# Altium integrated library Silicon Labs USB MCUs.IntLib: 49 symbols (part 3 of 3)
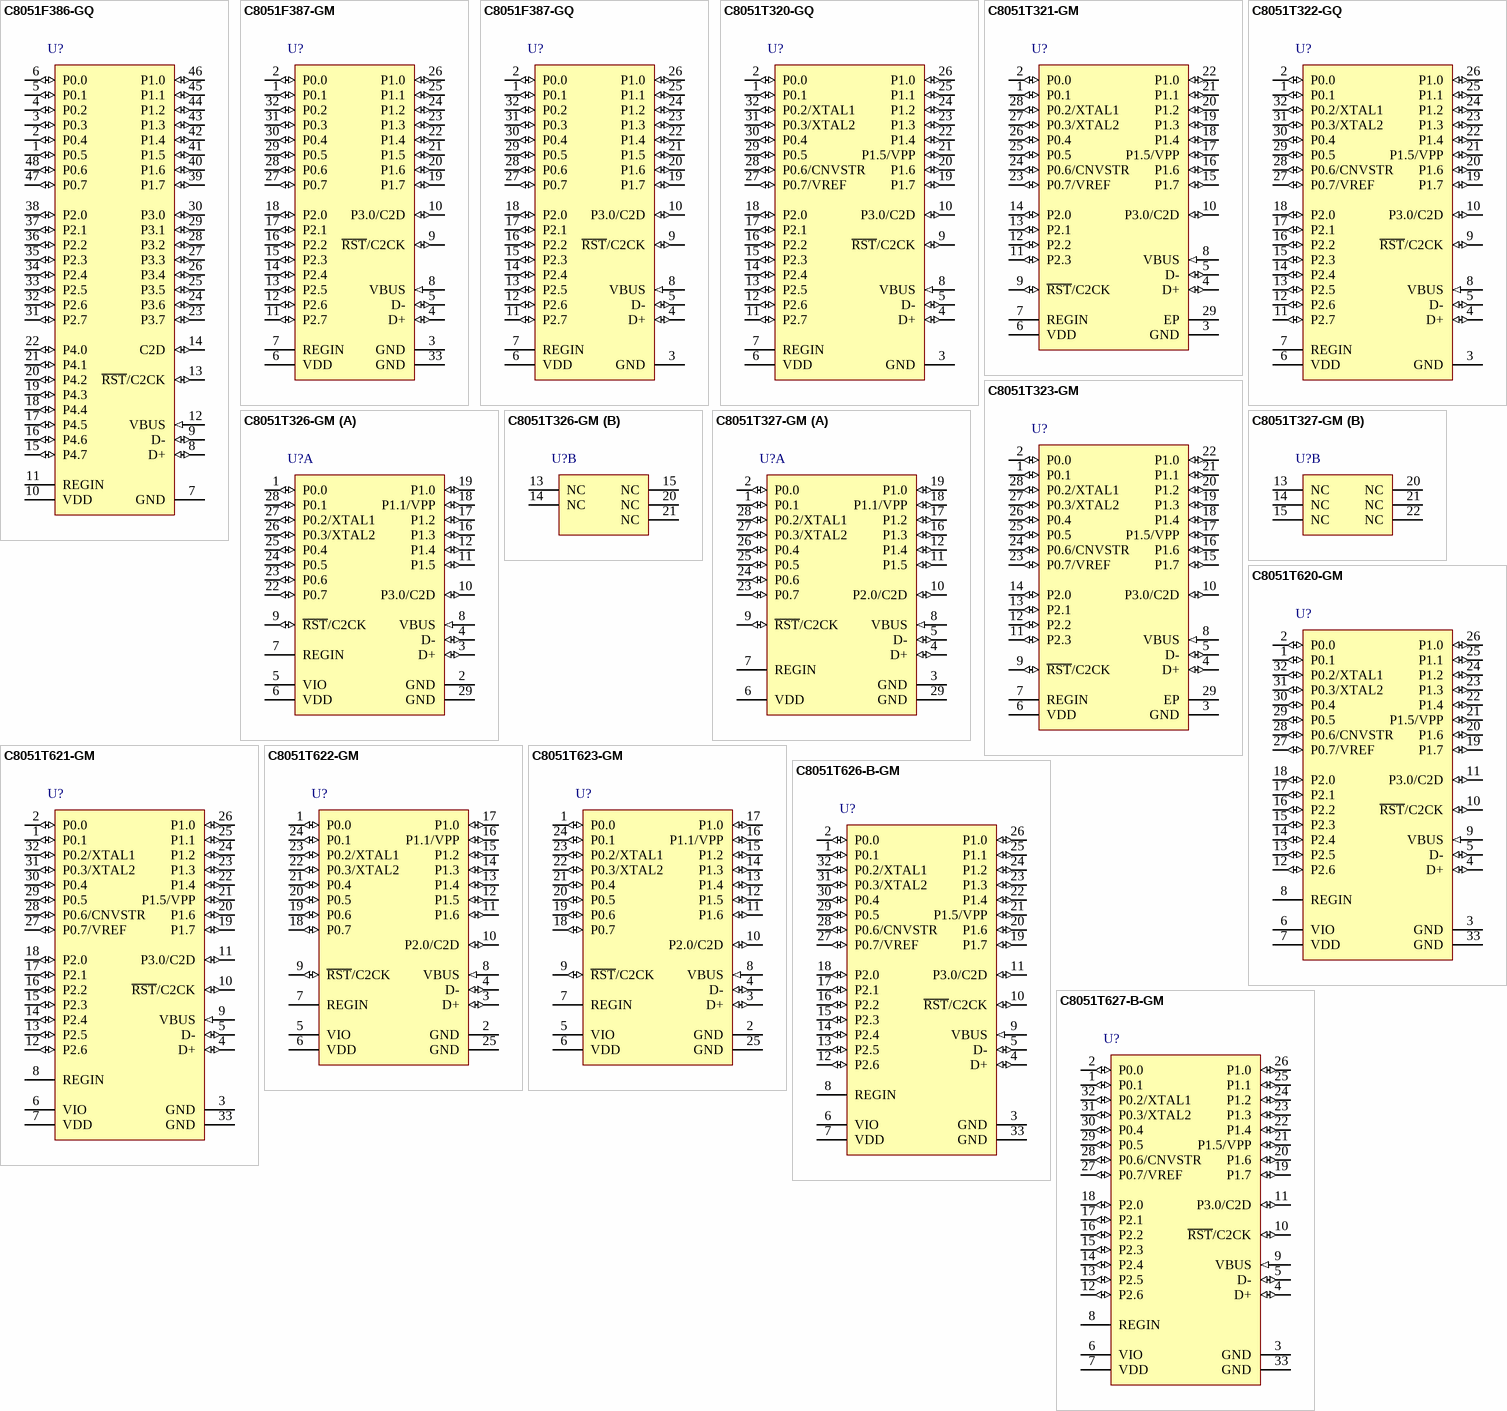
[diagram p4: symbols C8051F386-GQ to C8051T627-B-GM]

## C8051F387-GQ
designator U?
Full Speed USB Flash MCU Family, 48 MHz, 2.25 kB RAM, 32 kB Flash, -40 to 85 degC, 32-pin QFN; Manufacturer: Silicon Labs; PartNumber: C8051F387-GQ; AEC-Q100: FALSE; Comparators: 2; Debug Interface: C2; Dig I/O Pins: 25; Flash: 32 kB; Internal Osc. Accuracy: +/-0.25%; MCU Core: 8051; MHz: 48; PCA Channels: 5; RAM: 2.25 KB; Timers (16-bit): 6; Sub-Family: USB MCUs; DatasheetVersion: Rev. 1.3; PackageReference: LQFP-32; PackageDescription: 32-Pin Low-Profile Quad Flat Pack, Body 7 x 7 mm, Pitch 0.8 mm; Supplier 1: Digi-Key; Supplier Part Number 1: 336-2032-ND; Supplier 2: Mouser; Supplier Part Number 2: 634-C8051F387-GQ; Temp Sensor: FALSE; Mounting Technology: Surface Mount; Code_JEDEC: MS-026; Code_IPC: J-STD-020; ComponentLink1Description: Manufacturer URL; ComponentLink1URL: http://www.silabs.com/; ComponentLink2Description: Datasheet; ComponentLink2URL: http://www.silabs.com/Support Documents/TechnicalDocs/C8051F38x.pdf; ComponentLink3Description: Package Specification; ComponentLink3URL: http://www.silabs.com/Support%20Documents/TechnicalDocs/C8051F38x.pdf
footprint SLAB-LQFP-32_N (QFP, 32-Leads, Body 7x7mm, Pitch 0.8mm, IPC Medium Density)
footprint SLAB-LQFP-32_L (QFP, 32-Leads, Body 7x7mm, Pitch 0.8mm, IPC High Density)
footprint SLAB-LQFP-32_M (QFP, 32-Leads, Body 7x7mm, Pitch 0.8mm, IPC Low Density)
pins: 1 P0.1 (io) "Port 0.1.", 2 P0.0 (io) "Port 0.0. See Section 20 for a complete description of Port 0.", 3 GND (power) "Ground.", 4 D+ (io) "USB D+.", 5 D- (io) "USB D-", 6 VDD (power) "2.7-3.6 V Core Supply Voltage Input. 3.3 V Voltage Regulator Output. See Section 5.", 7 REGIN (power) "5 V Regulator Input. This pin is the input to the on-chip  voltage regulator.", 8 VBUS (in) "VBUS Sense Input. This pin should be connected to the VBUS signal of a USB network. A 5 V signal on this pin indicates a USB network connection.", 9 ~{RST}/C2CK (io), 10 P3.0/C2D (io), 11 P2.7 (io) "Port 2.7.", 12 P2.6 (io) "Port 2.6.", 13 P2.5 (io) "Port 2.5.", 14 P2.4 (io) "Port 2.4.", 15 P2.3 (io) "Port 2.3.", 16 P2.2 (io) "Port 2.2.", 17 P2.1 (io) "Port 2.1.", 18 P2.0 (io) "Port 2.0. See Section 20 for a complete description of Port 2.", 19 P1.7 (io) "Port 1.7.", 20 P1.6 (io) "Port 1.6.", 21 P1.5 (io) "Port 1.5.", 22 P1.4 (io) "Port 1.4.", 23 P1.3 (io) "Port 1.3.", 24 P1.2 (io) "Port 1.2.", 25 P1.1 (io) "Port 1.1.", 26 P1.0 (io) "Port 1.0. See Section 20 for a complete description of Port 1.", 27 P0.7 (io) "Port 0.7.", 28 P0.6 (io) "Port 0.6.", 29 P0.5 (io) "Port 0.5.", 30 P0.4 (io) "Port 0.4.", 31 P0.3 (io) "Port 0.3.", 32 P0.2 (io) "Port 0.2."

## C8051T320-GQ
designator U?
Full Speed USB EPROM MCU Family, 48 MHz, 1.25 kB RAM, 16 kB Flash, -40 to 85 degC, 32-pin QFP; Manufacturer: Silicon Labs; PartNumber: C8051T320-GQ; ADC 1: 10-bit, 16-ch., 500 ksps; AEC-Q100: FALSE; Comparators: 2; Debug Interface: C2; Dig I/O Pins: 25; Flash: 16 kB; MCU Core: 8051; MHz: 48; PCA Channels: 5; RAM: 1.25 KB; Temp Sensor: TRUE; Timers (16-bit): 4; Sub-Family: USB MCUs; DatasheetVersion: Rev. 1.2; PackageReference: LQFP-32; PackageDescription: 32-Pin Low-Profile Quad Flat Pack, Body 7 x 7 mm, Pitch 0.8 mm; Supplier 1: Digi-Key; Supplier Part Number 1: 336-2033-ND; Supplier 2: Mouser; Supplier Part Number 2: 634-C8051T320-GQ; Mounting Technology: Surface Mount; Code_JEDEC: MS-026; Code_IPC: J-STD-020; ComponentLink1Description: Manufacturer URL; ComponentLink1URL: http://www.silabs.com/; ComponentLink2Description: Datasheet; ComponentLink2URL: http://www.silabs.com/Support Documents/TechnicalDocs/C8051T620-21-26-27-T320-3.pdf; ComponentLink3Description: Package Specification; ComponentLink3URL: http://www.silabs.com/Support%20Documents/TechnicalDocs/C8051F38x.pdf
footprint SLAB-LQFP-32_N (QFP, 32-Leads, Body 7x7mm, Pitch 0.8mm, IPC Medium Density)
footprint SLAB-LQFP-32_L (QFP, 32-Leads, Body 7x7mm, Pitch 0.8mm, IPC High Density)
footprint SLAB-LQFP-32_M (QFP, 32-Leads, Body 7x7mm, Pitch 0.8mm, IPC Low Density)
pins: 1 P0.1 (io) "Port 0.1.", 2 P0.0 (io) "Port 0.0.", 3 GND (power) "Ground.", 4 D+ (io) "USB D+.", 5 D- (io) "USB D+.", 6 VDD (power) "Power Supply Voltage.", 7 REGIN (power) "5 V Regulator Input. This pin is the input to the on-chip voltage regulator", 8 VBUS (in) "VBUS Sense Input. This pin should be connected to the VBUS signal of a USB network. A 5 V signal on this pin indicates a USB network connection.", 9 ~{RST}/C2CK (io), 10 P3.0/C2D (io), 11 P2.7 (io) "Port 2.7.", 12 P2.6 (io) "Port 2.6.", 13 P2.5 (io) "Port 2.5.", 14 P2.4 (io) "Port 2.4.", 15 P2.3 (io) "Port 2.3.", 16 P2.2 (io) "Port 2.2.", 17 P2.1 (io) "Port 2.1.", 18 P2.0 (io) "Port 2.0.", 19 P1.7 (io) "Port 1.7.", 20 P1.6 (io) "Port 1.6.", 21 P1.5/VPP (io), 22 P1.4 (io) "Port 1.4.", 23 P1.3 (io) "Port 1.3.", 24 P1.2 (io) "Port 1.2.", 25 P1.1 (io) "Port 1.1.", 26 P1.0 (io) "Port 1.0.", 27 P0.7/VREF (io), 28 P0.6/CNVSTR (io), 29 P0.5 (io) "Port 0.5.", 30 P0.4 (io) "Port 0.4.", 31 P0.3/XTAL2 (io), 32 P0.2/XTAL1 (io)

## C8051T321-GM
designator U?
Full Speed USB EPROM MCU Family, 48 MHz, 1.25 kB RAM, 16 kB Flash, -40 to 85 degC, 28-pin QFN; Manufacturer: Silicon Labs; PartNumber: C8051T321-GM; ADC 1: 10-bit, 16-ch., 500 ksps; AEC-Q100: FALSE; Comparators: 2; Debug Interface: C2; Dig I/O Pins: 21; Flash: 16 kB; MCU Core: 8051; MHz: 48; PCA Channels: 5; RAM: 1.25 KB; Temp Sensor: TRUE; Timers (16-bit): 4; Sub-Family: USB MCUs; DatasheetVersion: Rev. 1.2; PackageReference: QFN-28; PackageDescription: 28-Pin Quad-Flat No-Leads Package, Body 5 x 5 mm, Pitch 0.5 mm; Supplier 1: Digi-Key; Supplier Part Number 1: 336-2034-ND; Supplier 2: Mouser; Supplier Part Number 2: 634-C8051T321-GM; Mounting Technology: Surface Mount; Code_JEDEC: MO-220; Code_IPC: J-STD-020C; ComponentLink1Description: Manufacturer URL; ComponentLink1URL: http://www.silabs.com/; ComponentLink2Description: Datasheet; ComponentLink2URL: http://www.silabs.com/Support Documents/TechnicalDocs/C8051T620-21-26-27-T320-3.pdf; ComponentLink3Description: Package Specification; ComponentLink3URL: http://www.silabs.com/Support%20Documents/TechnicalDocs/C8051T61x.pdf
footprint SLAB-QFN-28-3125x3125TP_N (QFN, 28-Leads, Body 5x5mm, Pitch 0.5mm, Thermal Pad 3.13x3.13mm, IPC Medium Density)
footprint SLAB-QFN-28-3125x3125TP_L (QFN, 28-Leads, Body 5x5mm, Pitch 0.5mm, Thermal Pad 3.13x3.13mm, IPC High Density)
footprint SLAB-QFN-28-3125x3125TP_M (QFN, 28-Leads, Body 5x5mm, Pitch 0.5mm, Thermal Pad 3.13x3.13mm, IPC Low Density)
pins: 1 P0.1 (io) "Port 0.1.", 2 P0.0 (io) "Port 0.0.", 3 GND (power) "Ground.", 4 D+ (io) "USB D+.", 5 D- (io) "USB D-.", 6 VDD (power) "Power Supply Voltage.", 7 REGIN (power) "5 V Regulator Input. This pin is the input to the on-chip voltage regulator", 8 VBUS (in) "VBUS Sense Input. This pin should be connected to the VBUS signal of a USB network. A 5 V signal on this pin indicates a USB network connection.", 9 ~{RST}/C2CK (io), 10 P3.0/C2D (io), 11 P2.3 (io) "Port 2.3.", 12 P2.2 (io) "Port 2.2.", 13 P2.1 (io) "Port 2.1.", 14 P2.0 (io) "Port 2.0.", 15 P1.7 (io) "Port 1.7.", 16 P1.6 (io) "Port 1.6.", 17 P1.5/VPP (io), 18 P1.4 (io) "Port 1.4.", 19 P1.3 (io) "Port 1.3.", 20 P1.2 (io) "Port 1.2.", 21 P1.1 (io) "Port 1.1.", 22 P1.0 (io) "Port 1.0.", 23 P0.7/VREF (io), 24 P0.6/CNVSTR (io), 25 P0.5 (io) "Port 0.5.", 26 P0.4 (io) "Port 0.4.", 27 P0.3/XTAL2 (io), 28 P0.2/XTAL1 (io), 29 EP (power)

## C8051T322-GQ
designator U?
Full Speed USB EPROM MCU Family, 48 MHz, 1.25 kB RAM, 16 kB Flash, -40 to 85 degC, 32-pin QFP; Manufacturer: Silicon Labs; PartNumber: C8051T322-GQ; AEC-Q100: FALSE; Comparators: 2; Debug Interface: C2; Dig I/O Pins: 25; Flash: 16 kB; MCU Core: 8051; MHz: 48; PCA Channels: 5; RAM: 1.25 kB; Temp Sensor: TRUE; Timers (16-bit): 4; Sub-Family: USB MCUs; DatasheetVersion: Rev. 1.2; PackageReference: LQFP-32; PackageDescription: 32-Pin Low-Profile Quad Flat Pack, Body 7 x 7 mm, Pitch 0.8 mm; Supplier 1: Digi-Key; Supplier Part Number 1: 336-2035-ND; Supplier 2: Mouser; Supplier Part Number 2: 634-C8051T322-GQ; Mounting Technology: Surface Mount; Code_JEDEC: MS-026; Code_IPC: J-STD-020; ComponentLink1Description: Manufacturer URL; ComponentLink1URL: http://www.silabs.com/; ComponentLink2Description: Datasheet; ComponentLink2URL: http://www.silabs.com/Support Documents/TechnicalDocs/C8051T620-21-26-27-T320-3.pdf; ComponentLink3Description: Package Specification; ComponentLink3URL: http://www.silabs.com/Support%20Documents/TechnicalDocs/C8051F38x.pdf
footprint SLAB-LQFP-32_N (QFP, 32-Leads, Body 7x7mm, Pitch 0.8mm, IPC Medium Density)
footprint SLAB-LQFP-32_L (QFP, 32-Leads, Body 7x7mm, Pitch 0.8mm, IPC High Density)
footprint SLAB-LQFP-32_M (QFP, 32-Leads, Body 7x7mm, Pitch 0.8mm, IPC Low Density)
pins: 1 P0.1 (io) "Port 0.1.", 2 P0.0 (io) "Port 0.0.", 3 GND (power) "Ground.", 4 D+ (io) "USB D+.", 5 D- (io) "USB D+.", 6 VDD (power) "Power Supply Voltage.", 7 REGIN (power) "5 V Regulator Input. This pin is the input to the on-chip voltage regulator", 8 VBUS (in) "VBUS Sense Input. This pin should be connected to the VBUS signal of a USB network. A 5 V signal on this pin indicates a USB network connection.", 9 ~{RST}/C2CK (io), 10 P3.0/C2D (io), 11 P2.7 (io) "Port 2.7.", 12 P2.6 (io) "Port 2.6.", 13 P2.5 (io) "Port 2.5.", 14 P2.4 (io) "Port 2.4.", 15 P2.3 (io) "Port 2.3.", 16 P2.2 (io) "Port 2.2.", 17 P2.1 (io) "Port 2.1.", 18 P2.0 (io) "Port 2.0.", 19 P1.7 (io) "Port 1.7.", 20 P1.6 (io) "Port 1.6.", 21 P1.5/VPP (io), 22 P1.4 (io) "Port 1.4.", 23 P1.3 (io) "Port 1.3.", 24 P1.2 (io) "Port 1.2.", 25 P1.1 (io) "Port 1.1.", 26 P1.0 (io) "Port 1.0.", 27 P0.7/VREF (io), 28 P0.6/CNVSTR (io), 29 P0.5 (io) "Port 0.5.", 30 P0.4 (io) "Port 0.4.", 31 P0.3/XTAL2 (io), 32 P0.2/XTAL1 (io)

## C8051T323-GM
designator U?
Full Speed USB EPROM MCU Family, 48 MHz, 1.25 kB RAM, 16 kB Flash, -40 to 85 degC, 28-pin QFN; Manufacturer: Silicon Labs; PartNumber: C8051T323-GM; AEC-Q100: FALSE; Comparators: 2; Debug Interface: C2; Dig I/O Pins: 21; Flash: 16 kB; MCU Core: 8051; MHz: 48; PCA Channels: 5; RAM: 1.25 KB; Temp Sensor: TRUE; Timers (16-bit): 4; Sub-Family: USB MCUs; DatasheetVersion: Rev. 1.2; PackageReference: QFN-28; PackageDescription: 28-Pin Quad-Flat No-Leads Package, Body 5 x 5 mm, Pitch 0.5 mm; Supplier 1: Digi-Key; Supplier Part Number 1: 336-2036-ND; Supplier 2: Mouser; Supplier Part Number 2: 634-C8051T323-GM; Mounting Technology: Surface Mount; Code_JEDEC: MO-220; Code_IPC: J-STD-020C; ComponentLink1Description: Manufacturer URL; ComponentLink1URL: http://www.silabs.com/; ComponentLink2Description: Datasheet; ComponentLink2URL: http://www.silabs.com/Support Documents/TechnicalDocs/C8051T620-21-26-27-T320-3.pdf; ComponentLink3Description: Package Specification; ComponentLink3URL: http://www.silabs.com/Support%20Documents/TechnicalDocs/C8051T61x.pdf
footprint SLAB-QFN-28-3125x3125TP_N (QFN, 28-Leads, Body 5x5mm, Pitch 0.5mm, Thermal Pad 3.13x3.13mm, IPC Medium Density)
footprint SLAB-QFN-28-3125x3125TP_L (QFN, 28-Leads, Body 5x5mm, Pitch 0.5mm, Thermal Pad 3.13x3.13mm, IPC High Density)
footprint SLAB-QFN-28-3125x3125TP_M (QFN, 28-Leads, Body 5x5mm, Pitch 0.5mm, Thermal Pad 3.13x3.13mm, IPC Low Density)
pins: 1 P0.1 (io) "Port 0.1.", 2 P0.0 (io) "Port 0.0.", 3 GND (power) "Ground.", 4 D+ (io) "USB D+.", 5 D- (io) "USB D-.", 6 VDD (power) "Power Supply Voltage.", 7 REGIN (power) "5 V Regulator Input. This pin is the input to the on-chip voltage regulator", 8 VBUS (in) "VBUS Sense Input. This pin should be connected to the VBUS signal of a USB network. A 5 V signal on this pin indicates a USB network connection.", 9 ~{RST}/C2CK (io), 10 P3.0/C2D (io), 11 P2.3 (io) "Port 2.3.", 12 P2.2 (io) "Port 2.2.", 13 P2.1 (io) "Port 2.1.", 14 P2.0 (io) "Port 2.0.", 15 P1.7 (io) "Port 1.7.", 16 P1.6 (io) "Port 1.6.", 17 P1.5/VPP (io), 18 P1.4 (io) "Port 1.4.", 19 P1.3 (io) "Port 1.3.", 20 P1.2 (io) "Port 1.2.", 21 P1.1 (io) "Port 1.1.", 22 P1.0 (io) "Port 1.0.", 23 P0.7/VREF (io), 24 P0.6/CNVSTR (io), 25 P0.5 (io) "Port 0.5.", 26 P0.4 (io) "Port 0.4.", 27 P0.3/XTAL2 (io), 28 P0.2/XTAL1 (io), 29 EP (power)

## C8051T326-GM
designator U?
Full Speed USB EPROM MCU Family, 48 MHz, 1.25 kB RAM, 16 kB Flash, -40 to 85 degC, 28-pin QFN; Manufacturer: Silicon Labs; PartNumber: C8051T326-GM; AEC-Q100: FALSE; Debug Interface: C2; Dig I/O Pins: 15; Flash: 16 kB; MCU Core: 8051; MHz: 48; PCA Channels: 5; RAM: 1.25 KB; Temp Sensor: TRUE; Timers (16-bit): 4; Sub-Family: USB MCUs; DatasheetVersion: Rev. 1.1; PackageReference: QFN-28; PackageDescription: 28-Pin Quad-Flat No-Leads Package, Body 5 x 5 mm, Pitch 0.5 mm; Supplier 1: Digi-Key; Supplier Part Number 1: 336-2037-ND; Supplier 2: Mouser; Supplier Part Number 2: 634-C8051T326-GM; Mounting Technology: Surface Mount; Code_JEDEC: MO-220; Code_IPC: J-STD-020C; ComponentLink1Description: Manufacturer URL; ComponentLink1URL: http://www.silabs.com/; ComponentLink2Description: Datasheet; ComponentLink2URL: http://www.silabs.com/Support Documents/TechnicalDocs/C8051T622-23-T326-27.pdf; ComponentLink3Description: Package Specification; ComponentLink3URL: http://www.silabs.com/Support%20Documents/TechnicalDocs/C8051T61x.pdf
footprint SLAB-QFN-28-3125x3125TP_N (QFN, 28-Leads, Body 5x5mm, Pitch 0.5mm, Thermal Pad 3.13x3.13mm, IPC Medium Density)
footprint SLAB-QFN-28-3125x3125TP_L (QFN, 28-Leads, Body 5x5mm, Pitch 0.5mm, Thermal Pad 3.13x3.13mm, IPC High Density)
footprint SLAB-QFN-28-3125x3125TP_M (QFN, 28-Leads, Body 5x5mm, Pitch 0.5mm, Thermal Pad 3.13x3.13mm, IPC Low Density)
part A pins: 1 P0.0 (io) "Port 0.0.", 2 GND (power) "Ground.", 3 D+ (io) "USB D+.", 4 D- (io) "USB D-", 5 VIO (power) "V I/O Supply Voltage Input. The voltage at this pin must  be less than or equal to the Core Supply Voltage (VDD).", 6 VDD (power) "Power Supply Voltage.", 7 REGIN (power) "5 V Regulator Input. This pin is the input to the on-chip  voltage regulator.", 8 VBUS (in) "VBUS Sense Input. This pin should be connected to the VBUS signal of a USB network. A 5 V signal on this pin indicates a USB network connection.", 9 ~{RST}/C2CK (io), 10 P3.0/C2D (io), 11 P1.5 (io) "Port 1.5.", 12 P1.4 (io) "Port 1.4.", 16 P1.3 (io) "Port 1.3.", 17 P1.2 (io) "Port 1.2.", 18 P1.1/VPP (io), 19 P1.0 (io) "Port 1.0.", 22 P0.7 (io) "Port 0.7", 23 P0.6 (io) "Port 0.6.", 24 P0.5 (io) "Port 0.5.", 25 P0.4 (io) "Port 0.4.", 26 P0.3/XTAL2 (io), 27 P0.2/XTAL1 (io), 28 P0.1 (io) "Port 0.1.", 29 GND (power)
part B pins: 13 NC, 14 NC, 15 NC, 20 NC, 21 NC

## C8051T327-GM
designator U?
Full Speed USB EPROM MCU Family, 48 MHz, 1.25 kB RAM, 16 kB Flash, -40 to 85 degC, 28-pin QFN; Manufacturer: Silicon Labs; PartNumber: C8051T327-GM; AEC-Q100: FALSE; Debug Interface: C2; Dig I/O Pins: 15; Flash: 16 kB; MCU Core: 8051; MHz: 48; PCA Channels: 5; RAM: 1.25 KB; Temp Sensor: TRUE; Timers (16-bit): 4; Sub-Family: USB MCUs; DatasheetVersion: Rev. 1.1; PackageReference: QFN-28; PackageDescription: 28-Pin Quad-Flat No-Leads Package, Body 5 x 5 mm, Pitch 0.5 mm; Supplier 1: Digi-Key; Supplier Part Number 1: 336-2038-ND; Supplier 2: Mouser; Supplier Part Number 2: 634-C8051T327-GM; Mounting Technology: Surface Mount; Code_JEDEC: MO-220; Code_IPC: J-STD-020C; ComponentLink1Description: Manufacturer URL; ComponentLink1URL: http://www.silabs.com/; ComponentLink2Description: Datasheet; ComponentLink2URL: http://www.silabs.com/Support Documents/TechnicalDocs/C8051T622-23-T326-27.pdf; ComponentLink3Description: Package Specification; ComponentLink3URL: http://www.silabs.com/Support%20Documents/TechnicalDocs/C8051T61x.pdf
footprint SLAB-QFN-28-3125x3125TP_N (QFN, 28-Leads, Body 5x5mm, Pitch 0.5mm, Thermal Pad 3.13x3.13mm, IPC Medium Density)
footprint SLAB-QFN-28-3125x3125TP_L (QFN, 28-Leads, Body 5x5mm, Pitch 0.5mm, Thermal Pad 3.13x3.13mm, IPC High Density)
footprint SLAB-QFN-28-3125x3125TP_M (QFN, 28-Leads, Body 5x5mm, Pitch 0.5mm, Thermal Pad 3.13x3.13mm, IPC Low Density)
part A pins: 1 P0.1 (io) "Port 0.1.", 2 P0.0 (io) "Port 0.0.", 3 GND (power) "Ground.", 4 D+ (io) "USB D+.", 5 D- (io) "USB D-", 6 VDD (power) "Power Supply Voltage.", 7 REGIN (power) "5 V Regulator Input. This pin is the input to the on-chip  voltage regulator.", 8 VBUS (in) "VBUS Sense Input. This pin should be connected to the VBUS signal of a USB network. A 5 V signal on this pin indicates a USB network connection.", 9 ~{RST}/C2CK (io), 10 P2.0/C2D (io), 11 P1.5 (io) "Port 1.5.", 12 P1.4 (io) "Port 1.4.", 16 P1.3 (io) "Port 1.3.", 17 P1.2 (io) "Port 1.2.", 18 P1.1/VPP (io), 19 P1.0 (io) "Port 1.0.", 23 P0.7 (io) "Port 0.7", 24 P0.6 (io) "Port 0.6.", 25 P0.5 (io) "Port 0.5.", 26 P0.4 (io) "Port 0.4.", 27 P0.3/XTAL2 (io), 28 P0.2/XTAL1 (io), 29 GND (power)
part B pins: 13 NC, 14 NC, 15 NC, 20 NC, 21 NC, 22 NC

## C8051T620-GM
designator U?
Full Speed USB EPROM MCU Family, 48 MHz, 1.25 kB RAM, 16 kB Flash, -40 to 85 degC, 32-pin QFN; Manufacturer: Silicon Labs; PartNumber: C8051T620-GM; AEC-Q100: FALSE; Comparators: 2; Debug Interface: C2; Dig I/O Pins: 24; Flash: 16 kB; MCU Core: 8051; MHz: 48; PCA Channels: 5; RAM: 1.25 KB; Temp Sensor: TRUE; Timers (16-bit): 4; Sub-Family: USB MCUs; DatasheetVersion: Rev. 1.2; PackageReference: QFN-32; PackageDescription: 32-Pin Quad-Flat No-Leads Package, Body 5 x 5 mm, Pitch 0.5 mm; Supplier 1: Digi-Key; Supplier Part Number 1: 336-2039-ND; Supplier 2: Mouser; Supplier Part Number 2: 634-C8051T620-GM; Mounting Technology: Surface Mount; Code_JEDEC: MO-220; Code_IPC: J-STD-020; ComponentLink1Description: Manufacturer URL; ComponentLink1URL: http://www.silabs.com/; ComponentLink2Description: Datasheet; ComponentLink2URL: http://www.silabs.com/Support Documents/TechnicalDocs/C8051T620-21-26-27-T320-3.pdf; ComponentLink3Description: Package Specification; ComponentLink3URL: http://www.silabs.com/Support%20Documents/TechnicalDocs/C8051F50x-51x.pdf
footprint SLAB-QFN-32-3300x3300TP_N (QFN, 32-Leads, Body 5x5mm, Pitch 0.5mm, Thermal Pad 3.3x3.3mm, IPC Medium Density)
footprint SLAB-QFN-32-3300x3300TP_L (QFN, 32-Leads, Body 5x5mm, Pitch 0.5mm, Thermal Pad 3.3x3.3mm, IPC High Density)
footprint SLAB-QFN-32-3300x3300TP_M (QFN, 32-Leads, Body 5x5mm, Pitch 0.5mm, Thermal Pad 3.3x3.3mm, IPC Low Density)
pins: 1 P0.1 (io) "Port 0.1.", 2 P0.0 (io) "Port 0.0.", 3 GND (power) "Ground.", 4 D+ (io) "USB D+.", 5 D- (io) "USB D-.", 6 VIO (power) "V I/O Supply Voltage Input. The voltage at this pin must be less than or equal to the Core Supply Voltage (VDD).", 7 VDD (power) "Power Supply Voltage.", 8 REGIN (power) "5 V Regulator Input. This pin is the input to the on-chip voltage regulator.", 9 VBUS (in) "VBUS Sense Input. This pin should be connected to the VBUS signal of a USB network. A 5 V signal on this pin indicates a USB network connection.", 10 ~{RST}/C2CK (io), 11 P3.0/C2D (io), 12 P2.6 (io) "Port 2.6.", 13 P2.5 (io) "Port 2.5.", 14 P2.4 (io) "Port 2.4.", 15 P2.3 (io) "Port 2.3.", 16 P2.2 (io) "Port 2.2.", 17 P2.1 (io) "Port 2.1.", 18 P2.0 (io) "Port 2.0.", 19 P1.7 (io) "Port 1.7.", 20 P1.6 (io) "Port 1.6.", 21 P1.5/VPP (io), 22 P1.4 (io) "Port 1.4.", 23 P1.3 (io) "Port 1.3.", 24 P1.2 (io) "Port 1.2.", 25 P1.1 (io) "Port 1.1.", 26 P1.0 (io) "Port 1.0.", 27 P0.7/VREF (io), 28 P0.6/CNVSTR (io), 29 P0.5 (io) "Port 0.5.", 30 P0.4 (io) "Port 0.4.", 31 P0.3/XTAL2 (io), 32 P0.2/XTAL1 (io), 33 GND (power) "Ground."

## C8051T621-GM
designator U?
Full Speed USB EPROM MCU Family, 48 MHz, 1.25 kB RAM, 16 kB Flash, -40 to 85 degC, 32-pin QFN; Manufacturer: Silicon Labs; PartNumber: C8051T621-GM; AEC-Q100: FALSE; Comparators: 2; Debug Interface: C2; Dig I/O Pins: 24; Flash: 16 kB; MCU Core: 8051; MHz: 48; PCA Channels: 5; RAM: 1.25 KB; Temp Sensor: TRUE; Timers (16-bit): 4; Sub-Family: USB MCUs; DatasheetVersion: Rev. 1.2; PackageReference: QFN-32; PackageDescription: 32-Pin Quad-Flat No-Leads Package, Body 5 x 5 mm, Pitch 0.5 mm; Supplier 1: Digi-Key; Supplier Part Number 1: 336-2040-ND; Supplier 2: Mouser; Supplier Part Number 2: 634-C8051T621-GM; Mounting Technology: Surface Mount; Code_JEDEC: MO-220; Code_IPC: J-STD-020; ComponentLink1Description: Manufacturer URL; ComponentLink1URL: http://www.silabs.com/; ComponentLink2Description: Datasheet; ComponentLink2URL: http://www.silabs.com/Support Documents/TechnicalDocs/C8051T620-21-26-27-T320-3.pdf; ComponentLink3Description: Package Specification; ComponentLink3URL: http://www.silabs.com/Support%20Documents/TechnicalDocs/C8051F50x-51x.pdf
footprint SLAB-QFN-32-3300x3300TP_N (QFN, 32-Leads, Body 5x5mm, Pitch 0.5mm, Thermal Pad 3.3x3.3mm, IPC Medium Density)
footprint SLAB-QFN-32-3300x3300TP_L (QFN, 32-Leads, Body 5x5mm, Pitch 0.5mm, Thermal Pad 3.3x3.3mm, IPC High Density)
footprint SLAB-QFN-32-3300x3300TP_M (QFN, 32-Leads, Body 5x5mm, Pitch 0.5mm, Thermal Pad 3.3x3.3mm, IPC Low Density)
pins: 1 P0.1 (io) "Port 0.1.", 2 P0.0 (io) "Port 0.0.", 3 GND (power) "Ground.", 4 D+ (io) "USB D+.", 5 D- (io) "USB D-.", 6 VIO (power) "V I/O Supply Voltage Input. The voltage at this pin must be less than or equal to the Core Supply Voltage (VDD).", 7 VDD (power) "Power Supply Voltage.", 8 REGIN (power) "5 V Regulator Input. This pin is the input to the on-chip voltage regulator.", 9 VBUS (in) "VBUS Sense Input. This pin should be connected to the VBUS signal of a USB network. A 5 V signal on this pin indicates a USB network connection.", 10 ~{RST}/C2CK (io), 11 P3.0/C2D (io), 12 P2.6 (io) "Port 2.6.", 13 P2.5 (io) "Port 2.5.", 14 P2.4 (io) "Port 2.4.", 15 P2.3 (io) "Port 2.3.", 16 P2.2 (io) "Port 2.2.", 17 P2.1 (io) "Port 2.1.", 18 P2.0 (io) "Port 2.0.", 19 P1.7 (io) "Port 1.7.", 20 P1.6 (io) "Port 1.6.", 21 P1.5/VPP (io), 22 P1.4 (io) "Port 1.4.", 23 P1.3 (io) "Port 1.3.", 24 P1.2 (io) "Port 1.2.", 25 P1.1 (io) "Port 1.1.", 26 P1.0 (io) "Port 1.0.", 27 P0.7/VREF (io), 28 P0.6/CNVSTR (io), 29 P0.5 (io) "Port 0.5.", 30 P0.4 (io) "Port 0.4.", 31 P0.3/XTAL2 (io), 32 P0.2/XTAL1 (io), 33 GND (power) "Ground."

## C8051T622-GM
designator U?
Full Speed USB EPROM MCU Family, 48 MHz, 1.25 kB RAM, 16 kB Flash, -40 to 85 degC, 24-pin QFN; Manufacturer: Silicon Labs; PartNumber: C8051T622-GM; AEC-Q100: FALSE; Debug Interface: C2; Dig I/O Pins: 16; Flash: 16 kB; Internal Osc. Accuracy: +/-1.5%; MCU Core: 8051; MHz: 48; PCA Channels: 5; RAM: 1.25 KB; Temp Sensor: TRUE; Timers (16-bit): 4; Sub-Family: USB MCUs; DatasheetVersion: Rev. 1.1; PackageReference: QFN-24; PackageDescription: 24-Pin Quad-Flat No-Leads Package, Body 4 x 4 mm, Pitch 0.5 mm; Supplier 1: Digi-Key; Supplier Part Number 1: 336-2041-ND; Supplier 2: Mouser; Supplier Part Number 2: 634-C8051T622-GM; Mounting Technology: Surface Mount; Code_JEDEC: MO-220; Code_IPC: J-STD-020; ComponentLink1Description: Manufacturer URL; ComponentLink1URL: http://www.silabs.com/; ComponentLink2Description: Datasheet; ComponentLink2URL: http://www.silabs.com/Support Documents/TechnicalDocs/C8051T622-23-T326-27.pdf; ComponentLink3Description: Package Specification; ComponentLink3URL: http://www.silabs.com/Support%20Documents/TechnicalDocs/C8051F93x-92x.pdf
footprint SLAB-QFN-24-2675x2675TP_N (QFN, 24-Leads, Body 4x4mm, Pitch 0.5mm, Thermal Pad 2.68x2.68mm, IPC Medium Density)
footprint SLAB-QFN-24-2675x2675TP_L (QFN, 24-Leads, Body 4x4mm, Pitch 0.5mm, Thermal Pad 2.68x2.68mm, IPC High Density)
footprint SLAB-QFN-24-2675x2675TP_M (QFN, 24-Leads, Body 4x4mm, Pitch 0.5mm, Thermal Pad 2.68x2.68mm, IPC Low Density)
pins: 1 P0.0 (io) "Port 0.0.", 2 GND (power) "Ground.", 3 D+ (io) "USB D+.", 4 D- (io) "USB D-.", 5 VIO (power) "V I/O Supply Voltage Input. The voltage at this pin must be less than or equal to the Core Supply Voltage (VDD).", 6 VDD (power) "Power Supply Voltage.", 7 REGIN (power) "5 V Regulator Input. This pin is the input to the on-chip voltage regulator.", 8 VBUS (in) "VBUS Sense Input. This pin should be connected to the VBUS signal of a USB network. A 5 V signal on this pin indicates a USB network connection.", 9 ~{RST}/C2CK (io), 10 P2.0/C2D (io), 11 P1.6 (io) "Port 1.6.", 12 P1.5 (io) "Port 1.5.", 13 P1.4 (io) "Port 1.4.", 14 P1.3 (io) "Port 1.3.", 15 P1.2 (io) "Port 1.2.", 16 P1.1/VPP (io), 17 P1.0 (io) "Port 1.0.", 18 P0.7 (io) "Port 0.7", 19 P0.6 (io) "Port 0.6.", 20 P0.5 (io) "Port 0.5.", 21 P0.4 (io) "Port 0.4.", 22 P0.3/XTAL2 (io), 23 P0.2/XTAL1 (io), 24 P0.1 (io) "Port 0.1.", 25 GND (power) "Ground."

## C8051T623-GM
designator U?
Full Speed USB EPROM MCU Family, 48 MHz, 1.25 kB RAM, 8 kB Flash, -40 to 85 degC, 24-pin QFN; Manufacturer: Silicon Labs; PartNumber: C8051T623-GM; AEC-Q100: FALSE; Debug Interface: C2; Dig I/O Pins: 16; Flash: 8 kB; Internal Osc. Accuracy: +/-1.5%; MCU Core: 8051; MHz: 48; PCA Channels: 5; RAM: 1.25 KB; Temp Sensor: TRUE; Timers (16-bit): 4; Sub-Family: USB MCUs; DatasheetVersion: Rev. 1.1; PackageReference: QFN-24; PackageDescription: 24-Pin Quad-Flat No-Leads Package, Body 4 x 4 mm, Pitch 0.5 mm; Supplier 1: Digi-Key; Supplier Part Number 1: 336-2042-ND; Supplier 2: Mouser; Supplier Part Number 2: 634-C8051T623-GM; Mounting Technology: Surface Mount; Code_JEDEC: MO-220; Code_IPC: J-STD-020; ComponentLink1Description: Manufacturer URL; ComponentLink1URL: http://www.silabs.com/; ComponentLink2Description: Datasheet; ComponentLink2URL: http://www.silabs.com/Support Documents/TechnicalDocs/C8051T622-23-T326-27.pdf; ComponentLink3Description: Package Specification; ComponentLink3URL: http://www.silabs.com/Support%20Documents/TechnicalDocs/C8051F93x-92x.pdf
footprint SLAB-QFN-24-2675x2675TP_N (QFN, 24-Leads, Body 4x4mm, Pitch 0.5mm, Thermal Pad 2.68x2.68mm, IPC Medium Density)
footprint SLAB-QFN-24-2675x2675TP_L (QFN, 24-Leads, Body 4x4mm, Pitch 0.5mm, Thermal Pad 2.68x2.68mm, IPC High Density)
footprint SLAB-QFN-24-2675x2675TP_M (QFN, 24-Leads, Body 4x4mm, Pitch 0.5mm, Thermal Pad 2.68x2.68mm, IPC Low Density)
pins: 1 P0.0 (io) "Port 0.0.", 2 GND (power) "Ground.", 3 D+ (io) "USB D+.", 4 D- (io) "USB D-.", 5 VIO (power) "V I/O Supply Voltage Input. The voltage at this pin must be less than or equal to the Core Supply Voltage (VDD).", 6 VDD (power) "Power Supply Voltage.", 7 REGIN (power) "5 V Regulator Input. This pin is the input to the on-chip voltage regulator.", 8 VBUS (in) "VBUS Sense Input. This pin should be connected to the VBUS signal of a USB network. A 5 V signal on this pin indicates a USB network connection.", 9 ~{RST}/C2CK (io), 10 P2.0/C2D (io), 11 P1.6 (io) "Port 1.6.", 12 P1.5 (io) "Port 1.5.", 13 P1.4 (io) "Port 1.4.", 14 P1.3 (io) "Port 1.3.", 15 P1.2 (io) "Port 1.2.", 16 P1.1/VPP (io), 17 P1.0 (io) "Port 1.0.", 18 P0.7 (io) "Port 0.7", 19 P0.6 (io) "Port 0.6.", 20 P0.5 (io) "Port 0.5.", 21 P0.4 (io) "Port 0.4.", 22 P0.3/XTAL2 (io), 23 P0.2/XTAL1 (io), 24 P0.1 (io) "Port 0.1.", 25 GND (power) "Ground."

## C8051T626-B-GM
designator U?
Full Speed USB EPROM MCU Family, 48 MHz, 3.25 kB RAM, 64 kB Flash, -40 to 85 degC, 32-pin QFN; Manufacturer: Silicon Labs; PartNumber: C8051T626-B-GM; ADC 1: 10-bit, 21-ch., 500 ksps; AEC-Q100: FALSE; Comparators: 2; Debug Interface: C2; Dig I/O Pins: 24; Flash: 64 kB; Internal Osc. Accuracy: +/-0.25%; MCU Core: 8051; MHz: 48; PCA Channels: 5; RAM: 3.25 KB; Temp Sensor: TRUE; Timers (16-bit): 4; Sub-Family: USB MCUs; DatasheetVersion: Rev. 1.2; PackageReference: QFN-32; PackageDescription: 32-Pin Quad-Flat No-Leads Package, Body 5 x 5 mm, Pitch 0.5 mm; Supplier 1: Digi-Key; Supplier Part Number 1: 336-2293-ND; Supplier 2: Mouser; Supplier Part Number 2: 634-C8051T626-B-GM; Mounting Technology: Surface Mount; Code_JEDEC: MO-220; Code_IPC: J-STD-020; ComponentLink1Description: Manufacturer URL; ComponentLink1URL: http://www.silabs.com/; ComponentLink2Description: Datasheet; ComponentLink2URL: http://www.silabs.com/Support Documents/TechnicalDocs/C8051T620-21-26-27-T320-3.pdf; ComponentLink3Description: Package Specification; ComponentLink3URL: http://www.silabs.com/Support%20Documents/TechnicalDocs/C8051F50x-51x.pdf
footprint SLAB-QFN-32-3300x3300TP_N (QFN, 32-Leads, Body 5x5mm, Pitch 0.5mm, Thermal Pad 3.3x3.3mm, IPC Medium Density)
footprint SLAB-QFN-32-3300x3300TP_L (QFN, 32-Leads, Body 5x5mm, Pitch 0.5mm, Thermal Pad 3.3x3.3mm, IPC High Density)
footprint SLAB-QFN-32-3300x3300TP_M (QFN, 32-Leads, Body 5x5mm, Pitch 0.5mm, Thermal Pad 3.3x3.3mm, IPC Low Density)
pins: 1 P0.1 (io) "Port 0.1.", 2 P0.0 (io) "Port 0.0.", 3 GND (power) "Ground.", 4 D+ (io) "USB D+.", 5 D- (io) "USB D-.", 6 VIO (power) "V I/O Supply Voltage Input. The voltage at this pin must be less than or equal to the Core Supply Voltage (VDD).", 7 VDD (power) "Power Supply Voltage.", 8 REGIN (power) "5 V Regulator Input. This pin is the input to the on-chip voltage regulator.", 9 VBUS (in) "VBUS Sense Input. This pin should be connected to the VBUS signal of a USB network. A 5 V signal on this pin indicates a USB network connection.", 10 ~{RST}/C2CK (io), 11 P3.0/C2D (io), 12 P2.6 (io) "Port 2.6.", 13 P2.5 (io) "Port 2.5.", 14 P2.4 (io) "Port 2.4.", 15 P2.3 (io) "Port 2.3.", 16 P2.2 (io) "Port 2.2.", 17 P2.1 (io) "Port 2.1.", 18 P2.0 (io) "Port 2.0.", 19 P1.7 (io) "Port 1.7.", 20 P1.6 (io) "Port 1.6.", 21 P1.5/VPP (io), 22 P1.4 (io) "Port 1.4.", 23 P1.3 (io) "Port 1.3.", 24 P1.2 (io) "Port 1.2.", 25 P1.1 (io) "Port 1.1.", 26 P1.0 (io) "Port 1.0.", 27 P0.7/VREF (io), 28 P0.6/CNVSTR (io), 29 P0.5 (io) "Port 0.5.", 30 P0.4 (io) "Port 0.4.", 31 P0.3/XTAL2 (io), 32 P0.2/XTAL1 (io), 33 GND (power) "Ground."

## C8051T627-B-GM
designator U?
Full Speed USB EPROM MCU Family, 48 MHz, 3.25 kB RAM, 32 kB Flash, -40 to 85 degC, 32-pin QFN; Manufacturer: Silicon Labs; PartNumber: C8051T627-B-GM; ADC 1: 10-bit, 21-ch., 500 ksps; AEC-Q100: FALSE; Comparators: 2; Debug Interface: C2; Dig I/O Pins: 24; Flash: 32 kB; Internal Osc. Accuracy: +/-0.25%; MCU Core: 8051; MHz: 48; PCA Channels: 5; RAM: 3.25 KB; Temp Sensor: TRUE; Timers (16-bit): 4; Sub-Family: USB MCUs; DatasheetVersion: Rev. 1.2; PackageReference: QFN-32; PackageDescription: 32-Pin Quad-Flat No-Leads Package, Body 5 x 5 mm, Pitch 0.5 mm; Supplier 1: Digi-Key; Supplier Part Number 1: 336-2292-ND; Supplier 2: Mouser; Supplier Part Number 2: 634-C8051T627-B-GM; Mounting Technology: Surface Mount; Code_JEDEC: MO-220; Code_IPC: J-STD-020; ComponentLink1Description: Manufacturer URL; ComponentLink1URL: http://www.silabs.com/; ComponentLink2Description: Datasheet; ComponentLink2URL: http://www.silabs.com/Support Documents/TechnicalDocs/C8051T620-21-26-27-T320-3.pdf; ComponentLink3Description: Package Specification; ComponentLink3URL: http://www.silabs.com/Support%20Documents/TechnicalDocs/C8051F50x-51x.pdf
footprint SLAB-QFN-32-3300x3300TP_N (QFN, 32-Leads, Body 5x5mm, Pitch 0.5mm, Thermal Pad 3.3x3.3mm, IPC Medium Density)
footprint SLAB-QFN-32-3300x3300TP_L (QFN, 32-Leads, Body 5x5mm, Pitch 0.5mm, Thermal Pad 3.3x3.3mm, IPC High Density)
footprint SLAB-QFN-32-3300x3300TP_M (QFN, 32-Leads, Body 5x5mm, Pitch 0.5mm, Thermal Pad 3.3x3.3mm, IPC Low Density)
pins: 1 P0.1 (io) "Port 0.1.", 2 P0.0 (io) "Port 0.0.", 3 GND (power) "Ground.", 4 D+ (io) "USB D+.", 5 D- (io) "USB D-.", 6 VIO (power) "V I/O Supply Voltage Input. The voltage at this pin must be less than or equal to the Core Supply Voltage (VDD).", 7 VDD (power) "Power Supply Voltage.", 8 REGIN (power) "5 V Regulator Input. This pin is the input to the on-chip voltage regulator.", 9 VBUS (in) "VBUS Sense Input. This pin should be connected to the VBUS signal of a USB network. A 5 V signal on this pin indicates a USB network connection.", 10 ~{RST}/C2CK (io), 11 P3.0/C2D (io), 12 P2.6 (io) "Port 2.6.", 13 P2.5 (io) "Port 2.5.", 14 P2.4 (io) "Port 2.4.", 15 P2.3 (io) "Port 2.3.", 16 P2.2 (io) "Port 2.2.", 17 P2.1 (io) "Port 2.1.", 18 P2.0 (io) "Port 2.0.", 19 P1.7 (io) "Port 1.7.", 20 P1.6 (io) "Port 1.6.", 21 P1.5/VPP (io), 22 P1.4 (io) "Port 1.4.", 23 P1.3 (io) "Port 1.3.", 24 P1.2 (io) "Port 1.2.", 25 P1.1 (io) "Port 1.1.", 26 P1.0 (io) "Port 1.0.", 27 P0.7/VREF (io), 28 P0.6/CNVSTR (io), 29 P0.5 (io) "Port 0.5.", 30 P0.4 (io) "Port 0.4.", 31 P0.3/XTAL2 (io), 32 P0.2/XTAL1 (io), 33 GND (power) "Ground."